# Altium schematic symbol library Fuse.SCHLIB: 2 symbols
Pins are listed as number, name and electrical type; pins without a type are passive.

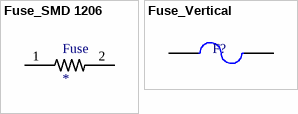
[diagram p0: symbols Fuse_SMD 1206 to Fuse_Vertical]

## Fuse_SMD 1206
designator Fuse
footprint 1206
pins: 1, 2

## Fuse_Vertical
designator F?  (value not drawn)
Fuse; Published: 8-Jun-2000; LatestRevisionDate: 17-Jul-2002; LatestRevisionNote: Re-released for DXP Platform.; PackageReference: PIN-W2/E2.8; Publisher: Altium Limited; PackageDescription: Thru-Hole; 2 Leads
footprint Fuse
pins: 1, 2